# EAGLE library part FT220XS-R (library SamacSys_Parts)
FTDI Chip FT220XS-R Interface SIE, UART 500kbit/s, 5 V, 16-Pin, SSOP Source: Datasheet <https://componentsearchengine.com/Datasheets/1/FT220XS-R.pdf>
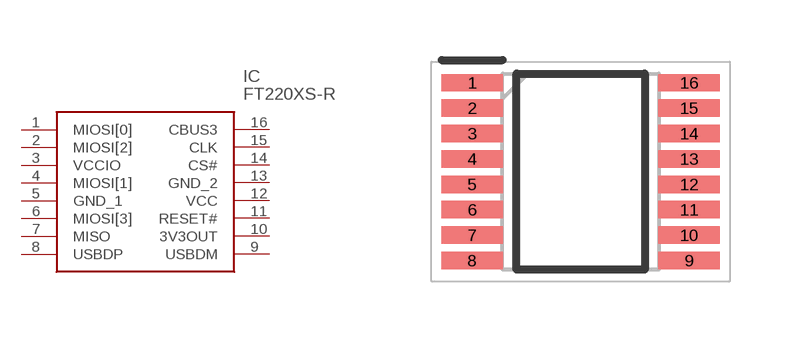
[diagram p2: symbol with the pads of SOP64P599X175-16N; footprint SOP64P599X175-16N]

Designator prefix IC

## FT220XS-R (Description: FTDI Chip FT220XS-R Interface SIE, UART 500kbit/s, 5 V, 16-Pin, SSOP; Height: 1.753mm; Manufacturer_Name: FTDI Chip; Manufacturer_Part_Number: FT220XS-R; Mouser_Part_Number: 895-FT220XS-R; Mouser_Price-Stock: https://www.mouser.com/Search/Refine.aspx?Keyword=895-FT220XS-R)  [SOP64P599X175-16N]
1  MIOSI[0]
2  MIOSI[2]
3  VCCIO
4  MIOSI[1]
5  GND_1
6  MIOSI[3]
7  MISO
8  USBDP
9  USBDM
10  3V3OUT
11  RESET#
12  VCC
13  GND_2
14  CS#
15  CLK
16  CBUS3

## Footprint SOP64P599X175-16N (pad centres in mm)
SSOP-16 (MO-137AB)
smd 1.526 x 0.435: 1 -2.712,2.222; 2 -2.712,1.588; 3 -2.712,0.952; 4 -2.712,0.318; 5 -2.712,-0.318; 6 -2.712,-0.952; 7 -2.712,-1.588; 8 -2.712,-2.222; 9 2.712,-2.222; 10 2.712,-1.588; 11 2.712,-0.952; 12 2.712,-0.318; 13 2.712,0.318; 14 2.712,0.952; 15 2.712,1.588; 16 2.712,2.222